# Altium integrated library TMDS261.IntLib: 1 symbol
Pins are listed as number, name and electrical type; pins without a type are passive.

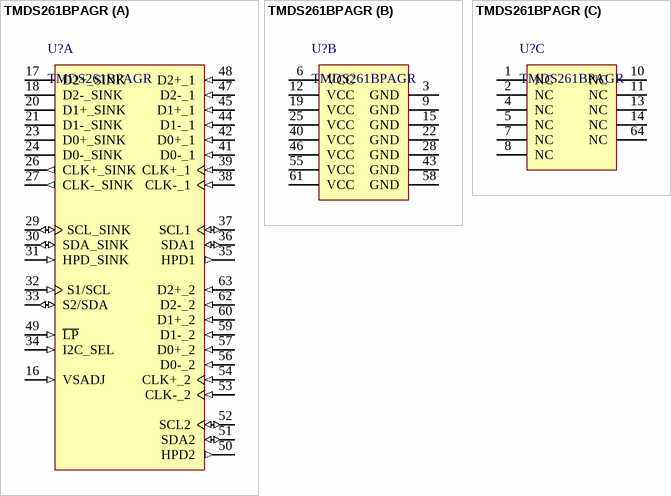
[diagram p0: symbol TMDS261BPAGR]

## TMDS261BPAGR
designator U?
Two-Port HDMI Switch, 216 mA, 9 kV, 0 to +70 degC, 64-pin TQPF (PAG), Green (RoHS & no Sb/Br); Manufacturer: Texas Instruments; ICC(Max)(mA): 216; No. of TMDS Outputs: 1; Intra-Pair Skew(Max)(ps): Jan-00; No. of TMDS Inputs: 2; Clock P-P Jitter(Max)(ps): 84; SubFamily: DVI/HDMI Repeater/Switch; TMDS Adaptive Equalization: TRUE; Data P-P Jitter(Max)(ps): 198; Inter-Pair Skew(Max)(ps): 100; ESD HBM(kV): 9; PackageReference: PAG0064A; PartNumber: TMDS261BPAGR; ComponentLink2URL: http://www.ti.com/general/docs/lit/getliterature.tsp?genericPartNumber=TMDS261B&fileType=pdf; Eco-Plan: Green (RoHS & no Sb/Br); Mounting Technology: Surface Mount; ComponentLink3URL: SamplesURL:http://www.ti.com/product/tmds261b#samples; PackageDescription: 64-Pin Thin Quad Flat Pack 0.5 mm Pitch; DatasheetVersion: SLLS987A; ComponentLink1Description: Manufacturer URL; ComponentLink3Description: URL Link1; ComponentLink1URL: http://www.ti.com/; ComponentLink2Description: Datasheet
footprint PAG0064A_L (QFP, 64-Leads, Body 10x10mm, Pitch 0.5mm, IPC High Density)
footprint PAG0064A_M (QFP, 64-Leads, Body 10x10mm, Pitch 0.5mm, IPC Low Density)
footprint PAG0064A_N (QFP, 64-Leads, Body 10x10mm, Pitch 0.5mm, IPC Medium Density)
part A pins: 16 VSADJ (in) "TMDS-compliant voltage swing control", 17 D2+_SINK (hiz) "TMDS sink differential data outputs", 18 D2-_SINK (hiz) "TMDS sink differential data outputs", 20 D1+_SINK (hiz) "TMDS sink differential data outputs", 21 D1-_SINK (hiz) "TMDS sink differential data outputs", 23 D0+_SINK (hiz) "TMDS sink differential data outputs", 24 D0-_SINK (hiz) "TMDS sink differential data outputs", 26 CLK+_SINK (out) "TMDS sink differential clock", 27 CLK-_SINK (out) "TMDS sink differential clock", 29 SCL_SINK (io) "TMDS sink-side bidirectional DDC clock", 30 SDA_SINK (io) "TMDS sink-side bidirectional DDC data", 31 HPD_SINK (in) "Sink hot-plug-detect input", 32 S1/SCL (in) "Source select 1(GPIO) / local I2C clock (I2C)", 33 S2/SDA (io) "Source select 2 (GPIO) / local I2C data (I2C)", 34 I2C_SEL (in) "GPIO/local I2C control select", 35 HPD1 (out) "Source port hot-plug-detect output", 36 SDA1 (io) "TMDS port bidirectional DDC data", 37 SCL1 (io) "TMDS port bidirectional DDC clock", 38 CLK-_1 (in) "Port-1 TMDS differential clock", 39 CLK+_1 (in) "Port-1 TMDS differential clock", 41 D0-_1 (in) "Port-1 TMDS differential data inputs", 42 D0+_1 (in) "Port-1 TMDS differential data inputs", 44 D1-_1 (in) "Port-1 TMDS differential data inputs", 45 D1+_1 (in) "Port-1 TMDS differential data inputs", 47 D2-_1 (in) "Port-1 TMDS differential data inputs", 48 D2+_1 (in) "Port-1 TMDS differential data inputs", 49 ~{LP} (in) "Low-power select bar", 50 HPD2 (out) "Source port hot-plug-detect output", 51 SDA2 (io) "TMDS port bidirectional DDC data", 52 SCL2 (io) "TMDS port bidirectional DDC clock", 53 CLK-_2 (in) "Port-2 TMDS differential clock", 54 CLK+_2 (in) "Port-2 TMDS differential clock", 56 D0-_2 (in) "Port-2 TMDS differential data inputs", 57 D0+_2 (in) "Port-2 TMDS differential data inputs", 59 D1-_2 (in) "Port-2 TMDS differential data inputs", 60 D1+_2 (in) "Port-2 TMDS differential data inputs", 62 D2-_2 (in) "Port-2 TMDS differential data inputs", 63 D2+_2 (in) "Port-2 TMDS differential data inputs"
part B pins: 3 GND (power) "Ground", 6 VCC (power) "3.3-V supply", 9 GND (power) "Ground", 12 VCC (power) "3.3-V supply", 15 GND (power) "Ground", 19 VCC (power) "3.3-V supply", 22 GND (power) "Ground", 25 VCC (power) "3.3-V supply", 28 GND (power) "Ground", 40 VCC (power) "3.3-V supply", 43 GND (power) "Ground", 46 VCC (power) "3.3-V supply", 55 VCC (power) "3.3-V supply", 58 GND (power) "Ground", 61 VCC (power) "3.3-V supply"
part C pins: 1 NC "No-connect pins", 2 NC "No-connect pins", 4 NC "No-connect pins", 5 NC "No-connect pins", 7 NC "No-connect pins", 8 NC "No-connect pins", 10 NC "No-connect pins", 11 NC "No-connect pins", 13 NC "No-connect pins", 14 NC "No-connect pins", 64 NC "No-connect pins"